# Altium schematic symbol library Schlib1.SchLib: 16 symbols
Pins are listed as number, name and electrical type; pins without a type are passive.

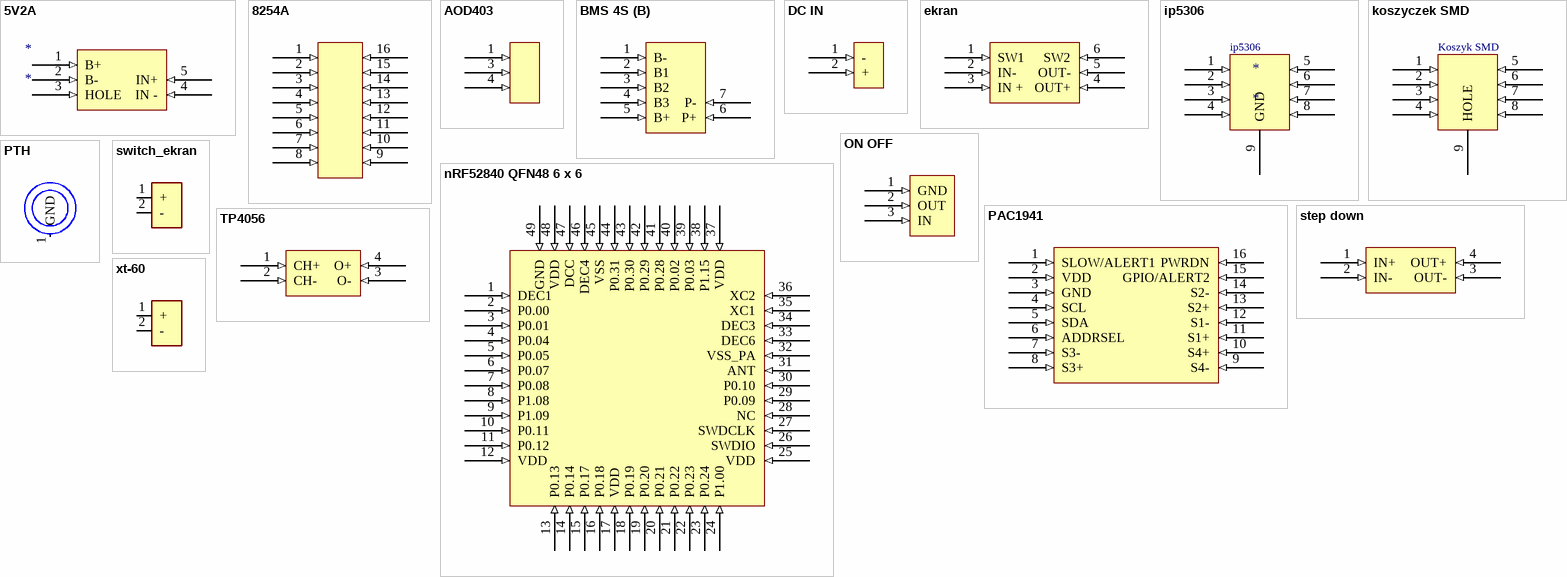
[diagram p0: symbols 5V2A to xt-60]

## 5V2A
designator *
footprint 5V2A charger
pins: 1 B+ (in), 2 B- (in), 3 HOLE (in), 4 IN - (in), 5 IN+ (in)

## 8254A
designator *  (value not drawn)
footprint 8254A (TSOP, 16-Leads, Body 5,10x4,40mm, Pitch 0,65mm, IPC Medium Density)
pins: 1 (in), 2 (in), 3 (in), 4 (in), 5 (in), 6 (in), 7 (in), 8 (in), 9 (in), 10 (in), 11 (in), 12 (in), 13 (in), 14 (in), 15 (in), 16 (in)

## AOD403
designator *  (value not drawn)
footprint AOD403 (D-PAK, 3-Pads, Body 6,21x6,74mm (max), IPC Medium Density)
pins: 1 (in), 3 (in), 4 (in)

## BMS 4S
designator *  (value not drawn)
footprint BMS 4S
part B pins: 1 B- (in), 2 B1 (in), 3 B2 (in), 4 B3 (in), 5 B+ (in), 6 P+ (in), 7 P- (in)

## DC IN
designator *  (value not drawn)
footprint DC_IN
pins: 1 - (in), 2 + (in)

## ekran
designator *  (value not drawn)
footprint ekran
pins: 1 SW1 (in), 2 IN- (in), 3 IN + (in), 4 OUT+ (in), 5 OUT- (in), 6 SW2 (in)

## ip5306
designator *
footprint ip5306
pins: 1 (in), 2 (in), 3 (in), 4 (in), 5 (in), 6 (in), 7 (in), 8 (in), 9 GND

## koszyczek SMD
designator *  (value not drawn)
footprint koszyk SMD (4S1P)
pins: 1 (in), 2 (in), 3 (in), 4 (in), 5 (in), 6 (in), 7 (in), 8 (in), 9 HOLE
text: Koszyk SMD

## nRF52840 QFN48 6 x 6
designator *  (value not drawn)
footprint Quad48 (nRF52840 QFN48 6x6)
pins: 1 DEC1 (in), 2 P0.00 (in), 3 P0.01 (in), 4 P0.04 (in), 5 P0.05 (in), 6 P0.07 (in), 7 P0.08 (in), 8 P1.08 (in), 9 P1.09 (in), 10 P0.11 (in), 11 P0.12 (in), 12 VDD (in), 13 P0.13 (in), 14 P0.14 (in), 15 P0.17 (in), 16 P0.18 (in), 17 VDD (in), 18 P0.19 (in), 19 P0.20 (in), 20 P0.21 (in), 21 P0.22 (in), 22 P0.23 (in), 23 P0.24 (in), 24 P1.00 (in), 25 VDD (in), 26 SWDIO (in), 27 SWDCLK (in), 28 NC (in), 29 P0.09 (in), 30 P0.10 (in), 31 ANT (in), 32 VSS_PA (in), 33 DEC6 (in), 34 DEC3 (in), 35 XC1 (in), 36 XC2 (in), 37 VDD (in), 38 P1.15 (in), 39 P0.03 (in), 40 P0.02 (in), 41 P0.28 (in), 42 P0.29 (in), 43 P0.30 (in), 44 P0.31 (in), 45 VSS (in), 46 DEC4 (in), 47 DCC (in), 48 VDD (in), 49 GND (in)

## ON OFF
designator *  (value not drawn)
footprint ON OFF
pins: 1 GND (in), 2 OUT (in), 3 IN (in)

## PAC1941
designator *  (value not drawn)
footprint VQFN16
pins: 1 SLOW/ALERT1 (in), 2 VDD (in), 3 GND (in), 4 SCL (in), 5 SDA (in), 6 ADDRSEL (in), 7 S3- (in), 8 S3+ (in), 9 S4- (in), 10 S4+ (in), 11 S1+ (in), 12 S1- (in), 13 S2+ (in), 14 S2- (in), 15 GPIO/ALERT2 (in), 16 PWRDN (in)

## PTH
designator *
footprint PTH (Otwór montażowy)
pins: 1 GND

## step down
designator *  (value not drawn)
footprint step down
pins: 1 IN+ (in), 2 IN- (in), 3 OUT- (in), 4 OUT+ (in)

## switch_ekran
designator *  (value not drawn)
footprint switch_ekran
pins: 1 +, 2 -

## TP4056
designator *  (value not drawn)
footprint TP4056 (ładowarka 1S)
pins: 1 CH+ (in), 2 CH- (in), 3 O- (in), 4 O+ (in)

## xt-60
designator *  (value not drawn)
footprint xt60
pins: 1 +, 2 -